# Altium schematic symbol library MOTOR＆WATER PUMP.SchLib: 3 symbols
Pins are listed as number, name and electrical type; pins without a type are passive.

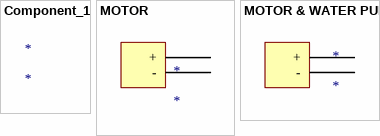
[diagram p0: symbols Component_1 to MOTOR & WATER PUMP]

## Component_1
designator *

## MOTOR
designator *
pins: ?1 +, ?2 -

## MOTOR & WATER PUMP
designator *
pins: ?1 +, ?2 -